# EAGLE library part TMUX7219DGKR (library NIPCB)
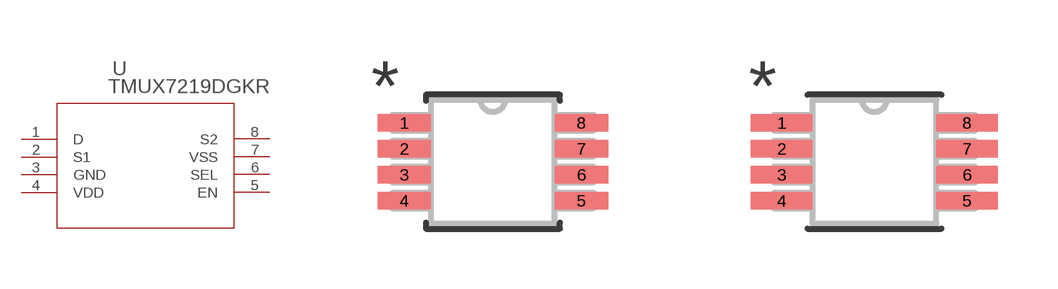
[diagram p11: symbol with the pads of VSSOP_9DGKR_TEX; footprints VSSOP_9DGKR_TEX, VSSOP_9DGKR_TEX-M]

Designator prefix U

## TMUX7219DGKRVSSOP_9DGKR_TEX (COPYRIGHT: Copyright (C) 2024 Ultra Librarian. All rights reserved.; MANUFACTURER_PART_NUMBER: TMUX7219DGKR; MFR_NAME: Texas Instruments)  [VSSOP_9DGKR_TEX]
1  D  pas
2  S1
3  GND  pas
4  VDD  pwr
5  EN  pas
6  SEL  pas
7  VSS  pas
8  S2

## TMUX7219DGKRVSSOP_9DGKR_TEX-M (COPYRIGHT: Copyright (C) 2024 Ultra Librarian. All rights reserved.; MANUFACTURER_PART_NUMBER: TMUX7219DGKR; MFR_NAME: Texas Instruments)  [VSSOP_9DGKR_TEX-M]
Pads as for VSSOP_9DGKR_TEX

## TMUX7219DGKRVSSOP_9DGKR_TEX-L (COPYRIGHT: Copyright (C) 2024 Ultra Librarian. All rights reserved.; MANUFACTURER_PART_NUMBER: TMUX7219DGKR; MFR_NAME: Texas Instruments)  [VSSOP_9DGKR_TEX-L]
Pads as for VSSOP_9DGKR_TEX

## Footprint VSSOP_9DGKR_TEX (pad centres in mm)
smd 1.333 x 0.432: 1 -2.216,0.975; 2 -2.216,0.325; 3 -2.216,-0.325; 4 -2.216,-0.975; 5 2.216,-0.975; 6 2.216,-0.325; 7 2.216,0.325; 8 2.216,0.975

## Footprint VSSOP_9DGKR_TEX-M (pad centres in mm)
smd 1.537 x 0.432: 1 -2.318,0.975; 2 -2.318,0.325; 3 -2.318,-0.325; 4 -2.318,-0.975; 5 2.318,-0.975; 6 2.318,-0.325; 7 2.318,0.325; 8 2.318,0.975

## Footprint VSSOP_9DGKR_TEX-L (pad centres in mm)
smd 1.118 x 0.381: 1 -2.121,0.975; 2 -2.121,0.325; 3 -2.121,-0.325; 4 -2.121,-0.975; 5 2.121,-0.975; 6 2.121,-0.325; 7 2.121,0.325; 8 2.121,0.975